# Altium integrated library Kondensator_DIP.IntLib: 1521 symbols (part 3 of 5)
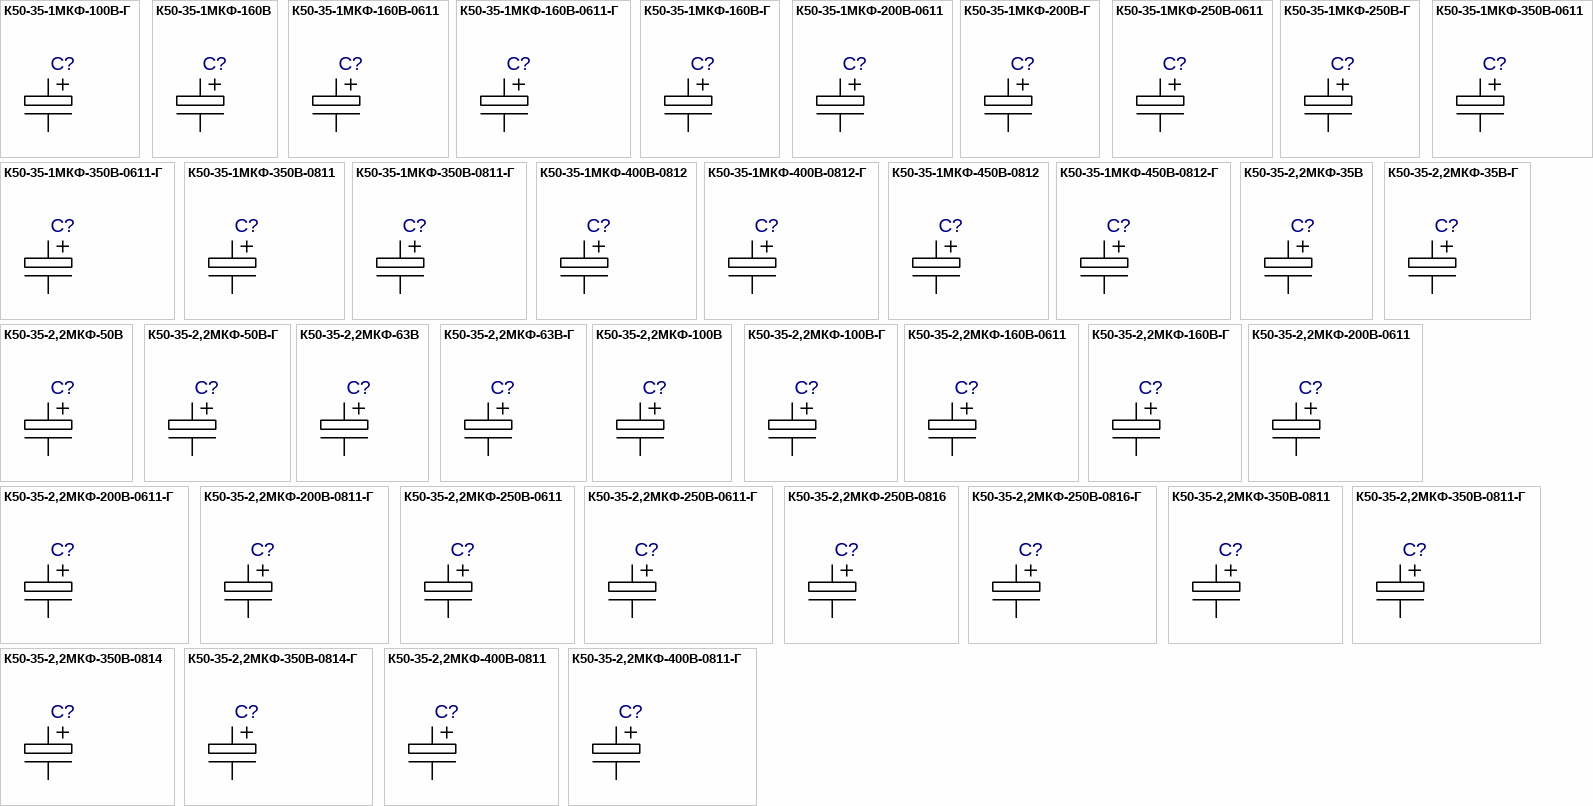
[diagram p40: symbols К50-35-1МКФ-100В-Г to К50-35-2,2МКФ-400В-0811-Г]

## К50-35-2,2МКФ-35В-Г
designator C?  (value not drawn)
Value: *
footprint К50-35-0511-Г_K5035-1R
footprint К50-35-0511-Г_K5035-1R1
footprint К50-35-0511-Г_Primary
pins: 1, 2

## К50-35-2,2МКФ-50В
designator C?  (value not drawn)
Value: *
footprint К50-35-0511_K5035-1R
footprint К50-35-0511_K5035-1R1
footprint К50-35-0511_Primary
pins: 1, 2

## К50-35-2,2МКФ-50В-Г
designator C?  (value not drawn)
Value: *
footprint К50-35-0511-Г_K5035-1R
footprint К50-35-0511-Г_K5035-1R1
footprint К50-35-0511-Г_Primary
pins: 1, 2

## К50-35-2,2МКФ-63В
designator C?  (value not drawn)
Value: *
footprint К50-35-0511_K5035-1R
footprint К50-35-0511_K5035-1R1
footprint К50-35-0511_Primary
pins: 1, 2

## К50-35-2,2МКФ-63В-Г
designator C?  (value not drawn)
Value: *
footprint К50-35-0511-Г_K5035-1R
footprint К50-35-0511-Г_K5035-1R1
footprint К50-35-0511-Г_Primary
pins: 1, 2

## К50-35-2,2МКФ-100В
designator C?  (value not drawn)
Value: *
footprint К50-35-0511_K5035-1R
footprint К50-35-0511_K5035-1R1
footprint К50-35-0511_Primary
pins: 1, 2

## К50-35-2,2МКФ-100В-Г
designator C?  (value not drawn)
Value: *
footprint К50-35-0511-Г_K5035-1R
footprint К50-35-0511-Г_K5035-1R1
footprint К50-35-0511-Г_Primary
pins: 1, 2

## К50-35-2,2МКФ-160В-0611
designator C?  (value not drawn)
Value: *
footprint К50-35-0611_K5035-1R
footprint К50-35-0611_K5035-1R1
footprint К50-35-0611_Primary
pins: 1, 2

## К50-35-2,2МКФ-160В-Г
designator C?  (value not drawn)
Value: *
footprint К50-35-0611-Г_K5035-1R
footprint К50-35-0611-Г_K5035-1R1
footprint К50-35-0611-Г_Primary
pins: 1, 2

## К50-35-2,2МКФ-200В-0611
designator C?  (value not drawn)
Value: *
footprint К50-35-0611_K5035-1R
footprint К50-35-0611_K5035-1R1
footprint К50-35-0611_Primary
pins: 1, 2

## К50-35-2,2МКФ-200В-0611-Г
designator C?  (value not drawn)
Value: *
footprint К50-35-0611-Г_K5035-1R
footprint К50-35-0611-Г_K5035-1R1
footprint К50-35-0611-Г_Primary
pins: 1, 2

## К50-35-2,2МКФ-200В-0811-Г
designator C?  (value not drawn)
Value: *
footprint К50-35-08XX-Г_K5035-2R
footprint К50-35-08XX-Г_K5035-2R1
footprint К50-35-08XX-Г_Primary
pins: 1, 2

## К50-35-2,2МКФ-250В-0611
designator C?  (value not drawn)
Value: *
footprint К50-35-0611_K5035-1R
footprint К50-35-0611_K5035-1R1
footprint К50-35-0611_Primary
pins: 1, 2

## К50-35-2,2МКФ-250В-0611-Г
designator C?  (value not drawn)
Value: *
footprint К50-35-0611-Г_K5035-1R
footprint К50-35-0611-Г_K5035-1R1
footprint К50-35-0611-Г_Primary
pins: 1, 2

## К50-35-2,2МКФ-250В-0816
designator C?  (value not drawn)
Value: *
footprint R50-35-08XX_K5035-2R
footprint R50-35-08XX_K5035-2R1
footprint R50-35-08XX_Primary
pins: 1, 2

## К50-35-2,2МКФ-250В-0816-Г
designator C?  (value not drawn)
Value: *
footprint К50-35-08XX-Г_K5035-2R
footprint К50-35-08XX-Г_K5035-2R1
footprint К50-35-08XX-Г_Primary
pins: 1, 2

## К50-35-2,2МКФ-350В-0811
designator C?  (value not drawn)
Value: *
footprint R50-35-08XX_K5035-2R
footprint R50-35-08XX_K5035-2R1
footprint R50-35-08XX_Primary
pins: 1, 2

## К50-35-2,2МКФ-350В-0811-Г
designator C?  (value not drawn)
Value: *
footprint К50-35-08XX-Г_K5035-2R
footprint К50-35-08XX-Г_K5035-2R1
footprint К50-35-08XX-Г_Primary
pins: 1, 2

## К50-35-2,2МКФ-350В-0814
designator C?  (value not drawn)
Value: *
footprint R50-35-08XX_K5035-2R
footprint R50-35-08XX_K5035-2R1
footprint R50-35-08XX_Primary
pins: 1, 2

## К50-35-2,2МКФ-350В-0814-Г
designator C?  (value not drawn)
Value: *
footprint К50-35-08XX-Г_K5035-2R
footprint К50-35-08XX-Г_K5035-2R1
footprint К50-35-08XX-Г_Primary
pins: 1, 2

## К50-35-2,2МКФ-400В-0811
designator C?  (value not drawn)
Value: *
footprint R50-35-08XX_K5035-2R
footprint R50-35-08XX_K5035-2R1
footprint R50-35-08XX_Primary
pins: 1, 2

## К50-35-2,2МКФ-400В-0811-Г
designator C?  (value not drawn)
Value: *
footprint К50-35-08XX-Г_K5035-2R
footprint К50-35-08XX-Г_K5035-2R1
footprint К50-35-08XX-Г_Primary
pins: 1, 2

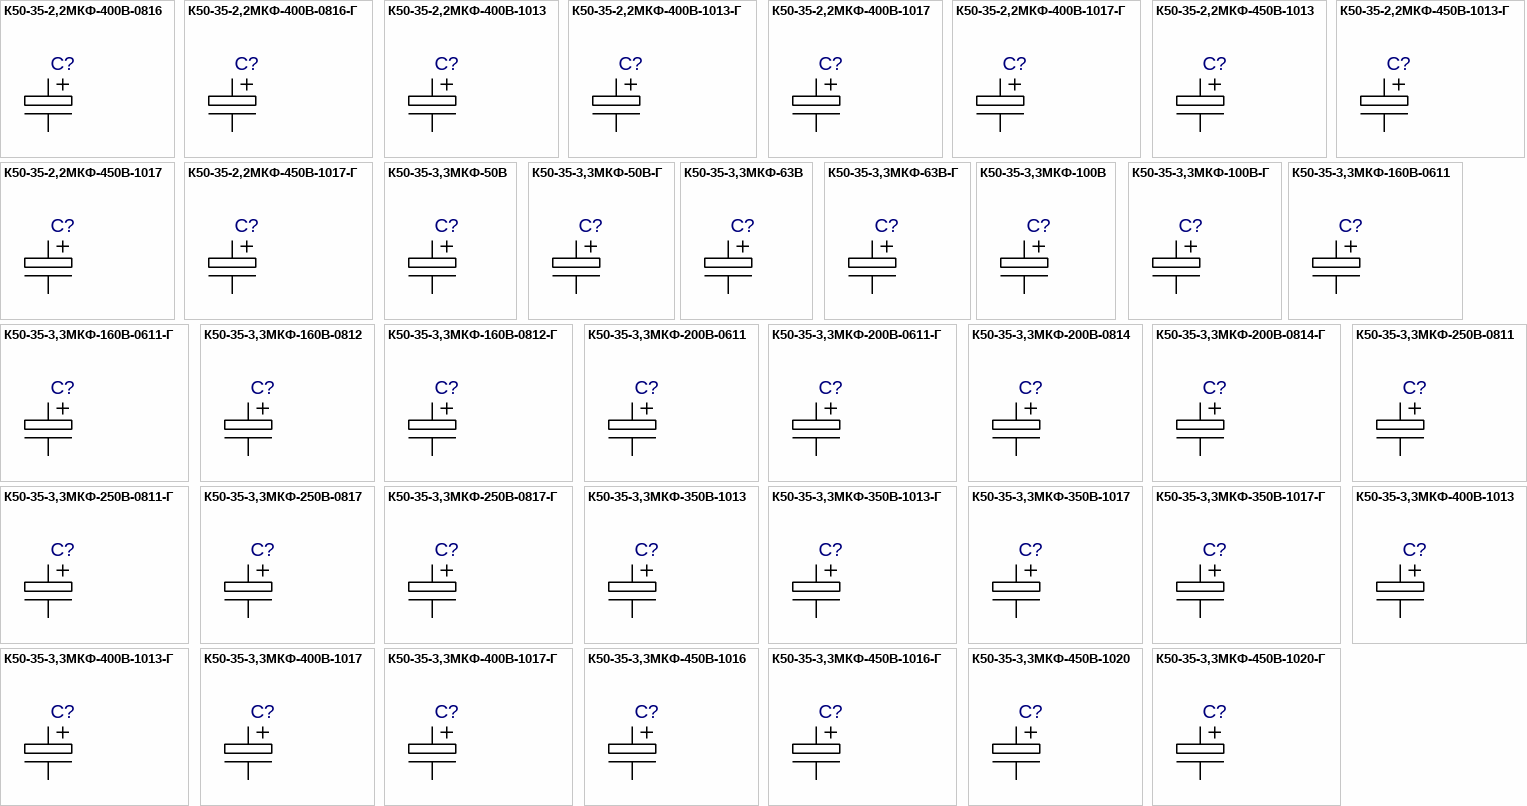
[diagram p23: symbols К50-35-2,2МКФ-400В-0816 to К50-35-3,3МКФ-450В-1020-Г]

## К50-35-2,2МКФ-400В-0816
designator C?  (value not drawn)
Value: *
footprint R50-35-08XX_K5035-2R
footprint R50-35-08XX_K5035-2R1
footprint R50-35-08XX_Primary
pins: 1, 2

## К50-35-2,2МКФ-400В-0816-Г
designator C?  (value not drawn)
Value: *
footprint К50-35-08XX-Г_K5035-2R
footprint К50-35-08XX-Г_K5035-2R1
footprint К50-35-08XX-Г_Primary
pins: 1, 2

## К50-35-2,2МКФ-400В-1013
designator C?  (value not drawn)
Value: *
footprint К50-35-1020_K5035-1R
footprint К50-35-1020_K5035-1R1
footprint К50-35-1020_Primary
pins: 1, 2

## К50-35-2,2МКФ-400В-1013-Г
designator C?  (value not drawn)
Value: *
footprint К50-35-1020-Г_K5035-1R
footprint К50-35-1020-Г_K5035-1R1
footprint К50-35-1020-Г_Primary
pins: 1, 2

## К50-35-2,2МКФ-400В-1017
designator C?  (value not drawn)
Value: *
footprint К50-35-1020_K5035-1R
footprint К50-35-1020_K5035-1R1
footprint К50-35-1020_Primary
pins: 1, 2

## К50-35-2,2МКФ-400В-1017-Г
designator C?  (value not drawn)
Value: *
footprint К50-35-1020-Г_K5035-1R
footprint К50-35-1020-Г_K5035-1R1
footprint К50-35-1020-Г_Primary
pins: 1, 2

## К50-35-2,2МКФ-450В-1013
designator C?  (value not drawn)
Value: *
footprint К50-35-1020_K5035-1R
footprint К50-35-1020_K5035-1R1
footprint К50-35-1020_Primary
pins: 1, 2

## К50-35-2,2МКФ-450В-1013-Г
designator C?  (value not drawn)
Value: *
footprint К50-35-1020-Г_K5035-1R
footprint К50-35-1020-Г_K5035-1R1
footprint К50-35-1020-Г_Primary
pins: 1, 2

## К50-35-2,2МКФ-450В-1017
designator C?  (value not drawn)
Value: *
footprint К50-35-1020_K5035-1R
footprint К50-35-1020_K5035-1R1
footprint К50-35-1020_Primary
pins: 1, 2

## К50-35-2,2МКФ-450В-1017-Г
designator C?  (value not drawn)
Value: *
footprint К50-35-1020-Г_K5035-1R
footprint К50-35-1020-Г_K5035-1R1
footprint К50-35-1020-Г_Primary
pins: 1, 2

## К50-35-3,3МКФ-50В
designator C?  (value not drawn)
Value: *
footprint К50-35-0511_K5035-1R
footprint К50-35-0511_K5035-1R1
footprint К50-35-0511_Primary
pins: 1, 2

## К50-35-3,3МКФ-50В-Г
designator C?  (value not drawn)
Value: *
footprint К50-35-0511-Г_K5035-1R
footprint К50-35-0511-Г_K5035-1R1
footprint К50-35-0511-Г_Primary
pins: 1, 2

## К50-35-3,3МКФ-63В
designator C?  (value not drawn)
Value: *
footprint К50-35-0511_K5035-1R
footprint К50-35-0511_K5035-1R1
footprint К50-35-0511_Primary
pins: 1, 2

## К50-35-3,3МКФ-63В-Г
designator C?  (value not drawn)
Value: *
footprint К50-35-0511-Г_K5035-1R
footprint К50-35-0511-Г_K5035-1R1
footprint К50-35-0511-Г_Primary
pins: 1, 2

## К50-35-3,3МКФ-100В
designator C?  (value not drawn)
Value: *
footprint К50-35-0511_K5035-1R
footprint К50-35-0511_K5035-1R1
footprint К50-35-0511_Primary
pins: 1, 2

## К50-35-3,3МКФ-100В-Г
designator C?  (value not drawn)
Value: *
footprint К50-35-0511-Г_K5035-1R
footprint К50-35-0511-Г_K5035-1R1
footprint К50-35-0511-Г_Primary
pins: 1, 2

## К50-35-3,3МКФ-160В-0611
designator C?  (value not drawn)
Value: *
footprint К50-35-0611_K5035-1R
footprint К50-35-0611_K5035-1R1
footprint К50-35-0611_Primary
pins: 1, 2

## К50-35-3,3МКФ-160В-0611-Г
designator C?  (value not drawn)
Value: *
footprint К50-35-0611-Г_K5035-1R
footprint К50-35-0611-Г_K5035-1R1
footprint К50-35-0611-Г_Primary
pins: 1, 2

## К50-35-3,3МКФ-160В-0812
designator C?  (value not drawn)
Value: *
footprint R50-35-08XX_K5035-2R
footprint R50-35-08XX_K5035-2R1
footprint R50-35-08XX_Primary
pins: 1, 2

## К50-35-3,3МКФ-160В-0812-Г
designator C?  (value not drawn)
Value: *
footprint К50-35-08XX-Г_K5035-2R
footprint К50-35-08XX-Г_K5035-2R1
footprint К50-35-08XX-Г_Primary
pins: 1, 2

## К50-35-3,3МКФ-200В-0611
designator C?  (value not drawn)
Value: *
footprint К50-35-0611_K5035-1R
footprint К50-35-0611_K5035-1R1
footprint К50-35-0611_Primary
pins: 1, 2

## К50-35-3,3МКФ-200В-0611-Г
designator C?  (value not drawn)
Value: *
footprint К50-35-0611-Г_K5035-1R
footprint К50-35-0611-Г_K5035-1R1
footprint К50-35-0611-Г_Primary
pins: 1, 2

## К50-35-3,3МКФ-200В-0814
designator C?  (value not drawn)
Value: *
footprint R50-35-08XX_K5035-2R
footprint R50-35-08XX_K5035-2R1
footprint R50-35-08XX_Primary
pins: 1, 2

## К50-35-3,3МКФ-200В-0814-Г
designator C?  (value not drawn)
Value: *
footprint К50-35-08XX-Г_K5035-2R
footprint К50-35-08XX-Г_K5035-2R1
footprint К50-35-08XX-Г_Primary
pins: 1, 2

## К50-35-3,3МКФ-250В-0811
designator C?  (value not drawn)
Value: *
footprint R50-35-08XX_K5035-2R
footprint R50-35-08XX_K5035-2R1
footprint R50-35-08XX_Primary
pins: 1, 2

## К50-35-3,3МКФ-250В-0811-Г
designator C?  (value not drawn)
Value: *
footprint К50-35-08XX-Г_K5035-2R
footprint К50-35-08XX-Г_K5035-2R1
footprint К50-35-08XX-Г_Primary
pins: 1, 2

## К50-35-3,3МКФ-250В-0817
designator C?  (value not drawn)
Value: *
footprint R50-35-08XX_K5035-2R
footprint R50-35-08XX_K5035-2R1
footprint R50-35-08XX_Primary
pins: 1, 2

## К50-35-3,3МКФ-250В-0817-Г
designator C?  (value not drawn)
Value: *
footprint К50-35-08XX-Г_K5035-2R
footprint К50-35-08XX-Г_K5035-2R1
footprint К50-35-08XX-Г_Primary
pins: 1, 2

## К50-35-3,3МКФ-350В-1013
designator C?  (value not drawn)
Value: *
footprint К50-35-1020_K5035-1R
footprint К50-35-1020_K5035-1R1
footprint К50-35-1020_Primary
pins: 1, 2

## К50-35-3,3МКФ-350В-1013-Г
designator C?  (value not drawn)
Value: *
footprint К50-35-1020-Г_K5035-1R
footprint К50-35-1020-Г_K5035-1R1
footprint К50-35-1020-Г_Primary
pins: 1, 2

## К50-35-3,3МКФ-350В-1017
designator C?  (value not drawn)
Value: *
footprint К50-35-1020_K5035-1R
footprint К50-35-1020_K5035-1R1
footprint К50-35-1020_Primary
pins: 1, 2

## К50-35-3,3МКФ-350В-1017-Г
designator C?  (value not drawn)
Value: *
footprint К50-35-1020-Г_K5035-1R
footprint К50-35-1020-Г_K5035-1R1
footprint К50-35-1020-Г_Primary
pins: 1, 2

## К50-35-3,3МКФ-400В-1013
designator C?  (value not drawn)
Value: *
footprint К50-35-1020_K5035-1R
footprint К50-35-1020_K5035-1R1
footprint К50-35-1020_Primary
pins: 1, 2

## К50-35-3,3МКФ-400В-1013-Г
designator C?  (value not drawn)
Value: *
footprint К50-35-1020-Г_K5035-1R
footprint К50-35-1020-Г_K5035-1R1
footprint К50-35-1020-Г_Primary
pins: 1, 2

## К50-35-3,3МКФ-400В-1017
designator C?  (value not drawn)
Value: *
footprint К50-35-1020_K5035-1R
footprint К50-35-1020_K5035-1R1
footprint К50-35-1020_Primary
pins: 1, 2

## К50-35-3,3МКФ-400В-1017-Г
designator C?  (value not drawn)
Value: *
footprint К50-35-1020-Г_K5035-1R
footprint К50-35-1020-Г_K5035-1R1
footprint К50-35-1020-Г_Primary
pins: 1, 2

## К50-35-3,3МКФ-450В-1016
designator C?  (value not drawn)
Value: *
footprint К50-35-1020_K5035-1R
footprint К50-35-1020_K5035-1R1
footprint К50-35-1020_Primary
pins: 1, 2

## К50-35-3,3МКФ-450В-1016-Г
designator C?  (value not drawn)
Value: *
footprint К50-35-1020-Г_K5035-1R
footprint К50-35-1020-Г_K5035-1R1
footprint К50-35-1020-Г_Primary
pins: 1, 2

## К50-35-3,3МКФ-450В-1020
designator C?  (value not drawn)
Value: *
footprint К50-35-1020_K5035-1R
footprint К50-35-1020_K5035-1R1
footprint К50-35-1020_Primary
pins: 1, 2

## К50-35-3,3МКФ-450В-1020-Г
designator C?  (value not drawn)
Value: *
footprint К50-35-1020-Г_K5035-1R
footprint К50-35-1020-Г_K5035-1R1
footprint К50-35-1020-Г_Primary
pins: 1, 2

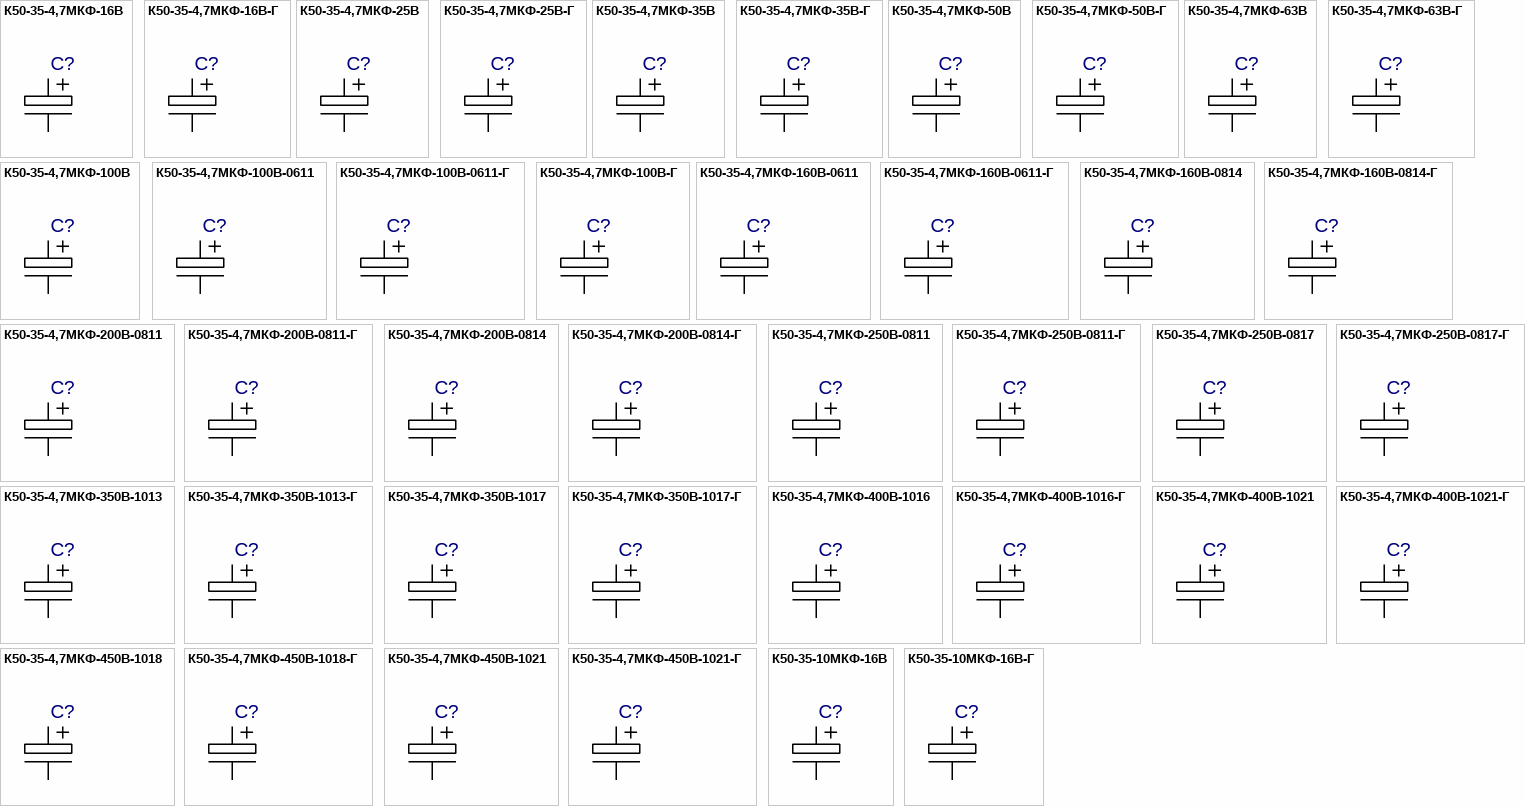
[diagram p24: symbols К50-35-4,7МКФ-16В to К50-35-10МКФ-16В-Г]

## К50-35-4,7МКФ-16В
designator C?  (value not drawn)
Value: *
footprint К50-35-0511_K5035-1R
footprint К50-35-0511_K5035-1R1
footprint К50-35-0511_Primary
pins: 1, 2

## К50-35-4,7МКФ-16В-Г
designator C?  (value not drawn)
Value: *
footprint К50-35-0511-Г_K5035-1R
footprint К50-35-0511-Г_K5035-1R1
footprint К50-35-0511-Г_Primary
pins: 1, 2

## К50-35-4,7МКФ-25В
designator C?  (value not drawn)
Value: *
footprint К50-35-0511_K5035-1R
footprint К50-35-0511_K5035-1R1
footprint К50-35-0511_Primary
pins: 1, 2

## К50-35-4,7МКФ-25В-Г
designator C?  (value not drawn)
Value: *
footprint К50-35-0511-Г_K5035-1R
footprint К50-35-0511-Г_K5035-1R1
footprint К50-35-0511-Г_Primary
pins: 1, 2

## К50-35-4,7МКФ-35В
designator C?  (value not drawn)
Value: *
footprint К50-35-0511_K5035-1R
footprint К50-35-0511_K5035-1R1
footprint К50-35-0511_Primary
pins: 1, 2

## К50-35-4,7МКФ-35В-Г
designator C?  (value not drawn)
Value: *
footprint К50-35-0511-Г_K5035-1R
footprint К50-35-0511-Г_K5035-1R1
footprint К50-35-0511-Г_Primary
pins: 1, 2

## К50-35-4,7МКФ-50В
designator C?  (value not drawn)
Value: *
footprint К50-35-0511_K5035-1R
footprint К50-35-0511_K5035-1R1
footprint К50-35-0511_Primary
pins: 1, 2

## К50-35-4,7МКФ-50В-Г
designator C?  (value not drawn)
Value: *
footprint К50-35-0511-Г_K5035-1R
footprint К50-35-0511-Г_K5035-1R1
footprint К50-35-0511-Г_Primary
pins: 1, 2

## К50-35-4,7МКФ-63В
designator C?  (value not drawn)
Value: *
footprint К50-35-0511_K5035-1R
footprint К50-35-0511_K5035-1R1
footprint К50-35-0511_Primary
pins: 1, 2

## К50-35-4,7МКФ-63В-Г
designator C?  (value not drawn)
Value: *
footprint К50-35-0511-Г_K5035-1R
footprint К50-35-0511-Г_K5035-1R1
footprint К50-35-0511-Г_Primary
pins: 1, 2

## К50-35-4,7МКФ-100В
designator C?  (value not drawn)
Value: *
footprint К50-35-0511_K5035-1R
footprint К50-35-0511_K5035-1R1
footprint К50-35-0511_Primary
pins: 1, 2

## К50-35-4,7МКФ-100В-0611
designator C?  (value not drawn)
Value: *
footprint К50-35-0611_K5035-1R
footprint К50-35-0611_K5035-1R1
footprint К50-35-0611_Primary
pins: 1, 2

## К50-35-4,7МКФ-100В-0611-Г
designator C?  (value not drawn)
Value: *
footprint К50-35-0611-Г_K5035-1R
footprint К50-35-0611-Г_K5035-1R1
footprint К50-35-0611-Г_Primary
pins: 1, 2

## К50-35-4,7МКФ-100В-Г
designator C?  (value not drawn)
Value: *
footprint К50-35-0511-Г_K5035-1R
footprint К50-35-0511-Г_K5035-1R1
footprint К50-35-0511-Г_Primary
pins: 1, 2

## К50-35-4,7МКФ-160В-0611
designator C?  (value not drawn)
Value: *
footprint К50-35-0611_K5035-1R
footprint К50-35-0611_K5035-1R1
footprint К50-35-0611_Primary
pins: 1, 2

## К50-35-4,7МКФ-160В-0611-Г
designator C?  (value not drawn)
Value: *
footprint К50-35-0611-Г_K5035-1R
footprint К50-35-0611-Г_K5035-1R1
footprint К50-35-0611-Г_Primary
pins: 1, 2

## К50-35-4,7МКФ-160В-0814
designator C?  (value not drawn)
Value: *
footprint R50-35-08XX_K5035-2R
footprint R50-35-08XX_K5035-2R1
footprint R50-35-08XX_Primary
pins: 1, 2

## К50-35-4,7МКФ-160В-0814-Г
designator C?  (value not drawn)
Value: *
footprint К50-35-08XX-Г_K5035-2R
footprint К50-35-08XX-Г_K5035-2R1
footprint К50-35-08XX-Г_Primary
pins: 1, 2

## К50-35-4,7МКФ-200В-0811
designator C?  (value not drawn)
Value: *
footprint R50-35-08XX_K5035-2R
footprint R50-35-08XX_K5035-2R1
footprint R50-35-08XX_Primary
pins: 1, 2

## К50-35-4,7МКФ-200В-0811-Г
designator C?  (value not drawn)
Value: *
footprint К50-35-08XX-Г_K5035-2R
footprint К50-35-08XX-Г_K5035-2R1
footprint К50-35-08XX-Г_Primary
pins: 1, 2

## К50-35-4,7МКФ-200В-0814
designator C?  (value not drawn)
Value: *
footprint R50-35-08XX_K5035-2R
footprint R50-35-08XX_K5035-2R1
footprint R50-35-08XX_Primary
pins: 1, 2

## К50-35-4,7МКФ-200В-0814-Г
designator C?  (value not drawn)
Value: *
footprint К50-35-08XX-Г_K5035-2R
footprint К50-35-08XX-Г_K5035-2R1
footprint К50-35-08XX-Г_Primary
pins: 1, 2

## К50-35-4,7МКФ-250В-0811
designator C?  (value not drawn)
Value: *
footprint R50-35-08XX_K5035-2R
footprint R50-35-08XX_K5035-2R1
footprint R50-35-08XX_Primary
pins: 1, 2

## К50-35-4,7МКФ-250В-0811-Г
designator C?  (value not drawn)
Value: *
footprint К50-35-08XX-Г_K5035-2R
footprint К50-35-08XX-Г_K5035-2R1
footprint К50-35-08XX-Г_Primary
pins: 1, 2

## К50-35-4,7МКФ-250В-0817
designator C?  (value not drawn)
Value: *
footprint R50-35-08XX_K5035-2R
footprint R50-35-08XX_K5035-2R1
footprint R50-35-08XX_Primary
pins: 1, 2

## К50-35-4,7МКФ-250В-0817-Г
designator C?  (value not drawn)
Value: *
footprint К50-35-08XX-Г_K5035-2R
footprint К50-35-08XX-Г_K5035-2R1
footprint К50-35-08XX-Г_Primary
pins: 1, 2

## К50-35-4,7МКФ-350В-1013
designator C?  (value not drawn)
Value: *
footprint К50-35-1020_K5035-1R
footprint К50-35-1020_K5035-1R1
footprint К50-35-1020_Primary
pins: 1, 2

## К50-35-4,7МКФ-350В-1013-Г
designator C?  (value not drawn)
Value: *
footprint К50-35-1020-Г_K5035-1R
footprint К50-35-1020-Г_K5035-1R1
footprint К50-35-1020-Г_Primary
pins: 1, 2

## К50-35-4,7МКФ-350В-1017
designator C?  (value not drawn)
Value: *
footprint К50-35-1020_K5035-1R
footprint К50-35-1020_K5035-1R1
footprint К50-35-1020_Primary
pins: 1, 2

## К50-35-4,7МКФ-350В-1017-Г
designator C?  (value not drawn)
Value: *
footprint К50-35-1020-Г_K5035-1R
footprint К50-35-1020-Г_K5035-1R1
footprint К50-35-1020-Г_Primary
pins: 1, 2

## К50-35-4,7МКФ-400В-1016
designator C?  (value not drawn)
Value: *
footprint К50-35-1020_K5035-1R
footprint К50-35-1020_K5035-1R1
footprint К50-35-1020_Primary
pins: 1, 2

## К50-35-4,7МКФ-400В-1016-Г
designator C?  (value not drawn)
Value: *
footprint К50-35-1020-Г_K5035-1R
footprint К50-35-1020-Г_K5035-1R1
footprint К50-35-1020-Г_Primary
pins: 1, 2

## К50-35-4,7МКФ-400В-1021
designator C?  (value not drawn)
Value: *
footprint К50-35-1020_K5035-1R
footprint К50-35-1020_K5035-1R1
footprint К50-35-1020_Primary
pins: 1, 2

## К50-35-4,7МКФ-400В-1021-Г
designator C?  (value not drawn)
Value: *
footprint К50-35-1020-Г_K5035-1R
footprint К50-35-1020-Г_K5035-1R1
footprint К50-35-1020-Г_Primary
pins: 1, 2

## К50-35-4,7МКФ-450В-1018
designator C?  (value not drawn)
Value: *
footprint К50-35-1020_K5035-1R
footprint К50-35-1020_K5035-1R1
footprint К50-35-1020_Primary
pins: 1, 2

## К50-35-4,7МКФ-450В-1018-Г
designator C?  (value not drawn)
Value: *
footprint К50-35-1020-Г_K5035-1R
footprint К50-35-1020-Г_K5035-1R1
footprint К50-35-1020-Г_Primary
pins: 1, 2

## К50-35-4,7МКФ-450В-1021
designator C?  (value not drawn)
Value: *
footprint К50-35-1020_K5035-1R
footprint К50-35-1020_K5035-1R1
footprint К50-35-1020_Primary
pins: 1, 2

## К50-35-4,7МКФ-450В-1021-Г
designator C?  (value not drawn)
Value: *
footprint К50-35-1020-Г_K5035-1R
footprint К50-35-1020-Г_K5035-1R1
footprint К50-35-1020-Г_Primary
pins: 1, 2

## К50-35-10МКФ-16В
designator C?  (value not drawn)
Value: *
footprint К50-35-0511_K5035-1R
footprint К50-35-0511_K5035-1R1
footprint К50-35-0511_Primary
pins: 1, 2

## К50-35-10МКФ-16В-Г
designator C?  (value not drawn)
Value: *
footprint К50-35-0511-Г_K5035-1R
footprint К50-35-0511-Г_K5035-1R1
footprint К50-35-0511-Г_Primary
pins: 1, 2

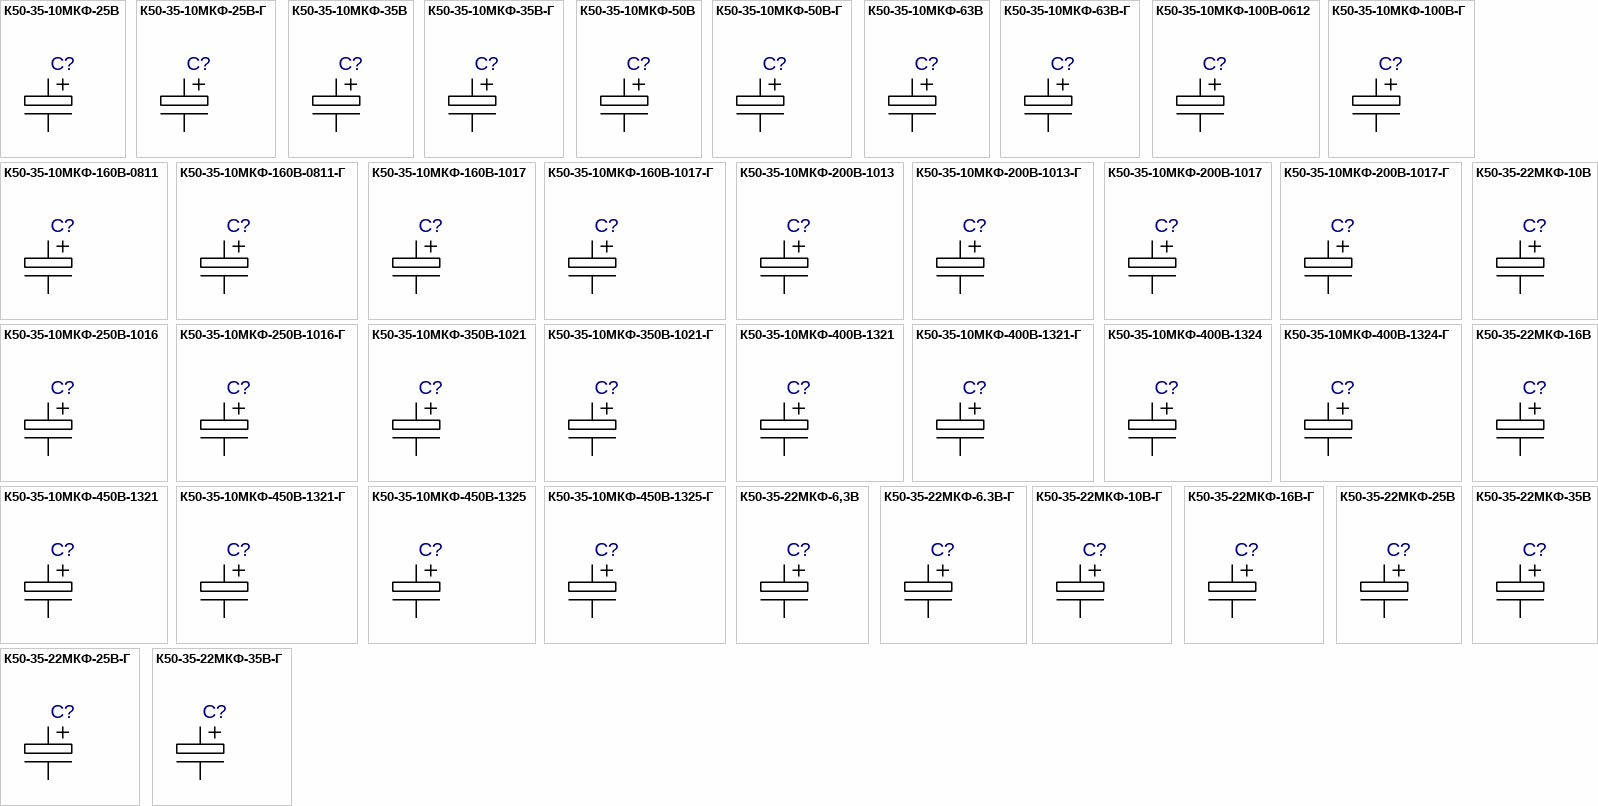
[diagram p25: symbols К50-35-10МКФ-25В to К50-35-22МКФ-35В-Г]

## К50-35-10МКФ-25В
designator C?  (value not drawn)
Value: *
footprint К50-35-0511_K5035-1R
footprint К50-35-0511_K5035-1R1
footprint К50-35-0511_Primary
pins: 1, 2

## К50-35-10МКФ-25В-Г
designator C?  (value not drawn)
Value: *
footprint К50-35-0511-Г_K5035-1R
footprint К50-35-0511-Г_K5035-1R1
footprint К50-35-0511-Г_Primary
pins: 1, 2

## К50-35-10МКФ-35В
designator C?  (value not drawn)
Value: *
footprint К50-35-0511_K5035-1R
footprint К50-35-0511_K5035-1R1
footprint К50-35-0511_Primary
pins: 1, 2

## К50-35-10МКФ-35В-Г
designator C?  (value not drawn)
Value: *
footprint К50-35-0511-Г_K5035-1R
footprint К50-35-0511-Г_K5035-1R1
footprint К50-35-0511-Г_Primary
pins: 1, 2

## К50-35-10МКФ-50В
designator C?  (value not drawn)
Value: *
footprint К50-35-0511_K5035-1R
footprint К50-35-0511_K5035-1R1
footprint К50-35-0511_Primary
pins: 1, 2

## К50-35-10МКФ-50В-Г
designator C?  (value not drawn)
Value: *
footprint К50-35-0511-Г_K5035-1R
footprint К50-35-0511-Г_K5035-1R1
footprint К50-35-0511-Г_Primary
pins: 1, 2

## К50-35-10МКФ-63В
designator C?  (value not drawn)
Value: *
footprint К50-35-0511_K5035-1R
footprint К50-35-0511_K5035-1R1
footprint К50-35-0511_Primary
pins: 1, 2

## К50-35-10МКФ-63В-Г
designator C?  (value not drawn)
Value: *
footprint К50-35-0511-Г_K5035-1R
footprint К50-35-0511-Г_K5035-1R1
footprint К50-35-0511-Г_Primary
pins: 1, 2

## К50-35-10МКФ-100В-0612
designator C?  (value not drawn)
Value: *
footprint К50-35-0611_K5035-1R
footprint К50-35-0611_K5035-1R1
footprint К50-35-0611_Primary
pins: 1, 2

## К50-35-10МКФ-100В-Г
designator C?  (value not drawn)
Value: *
footprint К50-35-0611-Г_K5035-1R
footprint К50-35-0611-Г_K5035-1R1
footprint К50-35-0611-Г_Primary
pins: 1, 2

## К50-35-10МКФ-160В-0811
designator C?  (value not drawn)
Value: *
footprint R50-35-08XX_K5035-2R
footprint R50-35-08XX_K5035-2R1
footprint R50-35-08XX_Primary
pins: 1, 2

## К50-35-10МКФ-160В-0811-Г
designator C?  (value not drawn)
Value: *
footprint К50-35-08XX-Г_K5035-2R
footprint К50-35-08XX-Г_K5035-2R1
footprint К50-35-08XX-Г_Primary
pins: 1, 2

## К50-35-10МКФ-160В-1017
designator C?  (value not drawn)
Value: *
footprint К50-35-1020_K5035-1R
footprint К50-35-1020_K5035-1R1
footprint К50-35-1020_Primary
pins: 1, 2

## К50-35-10МКФ-160В-1017-Г
designator C?  (value not drawn)
Value: *
footprint К50-35-1020-Г_K5035-1R
footprint К50-35-1020-Г_K5035-1R1
footprint К50-35-1020-Г_Primary
pins: 1, 2

## К50-35-10МКФ-200В-1013
designator C?  (value not drawn)
Value: *
footprint К50-35-1020_K5035-1R
footprint К50-35-1020_K5035-1R1
footprint К50-35-1020_Primary
pins: 1, 2

## К50-35-10МКФ-200В-1013-Г
designator C?  (value not drawn)
Value: *
footprint К50-35-1020-Г_K5035-1R
footprint К50-35-1020-Г_K5035-1R1
footprint К50-35-1020-Г_Primary
pins: 1, 2

## К50-35-10МКФ-200В-1017
designator C?  (value not drawn)
Value: *
footprint К50-35-1020_K5035-1R
footprint К50-35-1020_K5035-1R1
footprint К50-35-1020_Primary
pins: 1, 2

## К50-35-10МКФ-200В-1017-Г
designator C?  (value not drawn)
Value: *
footprint К50-35-1020-Г_K5035-1R
footprint К50-35-1020-Г_K5035-1R1
footprint К50-35-1020-Г_Primary
pins: 1, 2

## К50-35-10МКФ-250В-1016
designator C?  (value not drawn)
Value: *
footprint К50-35-1020_K5035-1R
footprint К50-35-1020_K5035-1R1
footprint К50-35-1020_Primary
pins: 1, 2

## К50-35-10МКФ-250В-1016-Г
designator C?  (value not drawn)
Value: *
footprint К50-35-1020-Г_K5035-1R
footprint К50-35-1020-Г_K5035-1R1
footprint К50-35-1020-Г_Primary
pins: 1, 2

## К50-35-10МКФ-350В-1021
designator C?  (value not drawn)
Value: *
footprint К50-35-1020_K5035-1R
footprint К50-35-1020_K5035-1R1
footprint К50-35-1020_Primary
pins: 1, 2

## К50-35-10МКФ-350В-1021-Г
designator C?  (value not drawn)
Value: *
footprint К50-35-1020-Г_K5035-1R
footprint К50-35-1020-Г_K5035-1R1
footprint К50-35-1020-Г_Primary
pins: 1, 2

## К50-35-10МКФ-400В-1321
designator C?  (value not drawn)
Value: *
footprint К50-35-1320_K5035-1R
footprint К50-35-1320_K5035-1R1
footprint К50-35-1320_Primary
pins: 1, 2

## К50-35-10МКФ-400В-1321-Г
designator C?  (value not drawn)
Value: *
footprint К50-35-13XX-Г_K5035-1R
footprint К50-35-13XX-Г_K5035-1R1
footprint К50-35-13XX-Г_Primary
pins: 1, 2

## К50-35-10МКФ-400В-1324
designator C?  (value not drawn)
Value: *
footprint К50-35-1320_K5035-1R
footprint К50-35-1320_K5035-1R1
footprint К50-35-1320_Primary
pins: 1, 2

## К50-35-10МКФ-400В-1324-Г
designator C?  (value not drawn)
Value: *
footprint К50-35-13XX-Г_K5035-1R
footprint К50-35-13XX-Г_K5035-1R1
footprint К50-35-13XX-Г_Primary
pins: 1, 2

## К50-35-10МКФ-450В-1321
designator C?  (value not drawn)
Value: *
footprint К50-35-1320_K5035-1R
footprint К50-35-1320_K5035-1R1
footprint К50-35-1320_Primary
pins: 1, 2

## К50-35-10МКФ-450В-1321-Г
designator C?  (value not drawn)
Value: *
footprint К50-35-13XX-Г_K5035-1R
footprint К50-35-13XX-Г_K5035-1R1
footprint К50-35-13XX-Г_Primary
pins: 1, 2

## К50-35-10МКФ-450В-1325
designator C?  (value not drawn)
Value: *
footprint К50-35-1320_K5035-1R
footprint К50-35-1320_K5035-1R1
footprint К50-35-1320_Primary
pins: 1, 2

## К50-35-10МКФ-450В-1325-Г
designator C?  (value not drawn)
Value: *
footprint К50-35-13XX-Г_K5035-1R
footprint К50-35-13XX-Г_K5035-1R1
footprint К50-35-13XX-Г_Primary
pins: 1, 2

## К50-35-22МКФ-6,3В
designator C?  (value not drawn)
Value: *
footprint К50-35-0511_K5035-1R
footprint К50-35-0511_K5035-1R1
footprint К50-35-0511_Primary
pins: 1, 2

## К50-35-22МКФ-6.3В-Г
designator C?  (value not drawn)
Value: *
footprint К50-35-0511-Г_K5035-1R
footprint К50-35-0511-Г_K5035-1R1
footprint К50-35-0511-Г_Primary
pins: 1, 2

## К50-35-22МКФ-10В
designator C?  (value not drawn)
Value: *
footprint К50-35-0511_K5035-1R
footprint К50-35-0511_K5035-1R1
footprint К50-35-0511_Primary
pins: 1, 2

## К50-35-22МКФ-10В-Г
designator C?  (value not drawn)
Value: *
footprint К50-35-0511-Г_K5035-1R
footprint К50-35-0511-Г_K5035-1R1
footprint К50-35-0511-Г_Primary
pins: 1, 2

## К50-35-22МКФ-16В
designator C?  (value not drawn)
Value: *
footprint К50-35-0511_K5035-1R
footprint К50-35-0511_K5035-1R1
footprint К50-35-0511_Primary
pins: 1, 2

## К50-35-22МКФ-16В-Г
designator C?  (value not drawn)
Value: *
footprint К50-35-0511-Г_K5035-1R
footprint К50-35-0511-Г_K5035-1R1
footprint К50-35-0511-Г_Primary
pins: 1, 2

## К50-35-22МКФ-25В
designator C?  (value not drawn)
Value: *
footprint К50-35-0511_K5035-1R
footprint К50-35-0511_K5035-1R1
footprint К50-35-0511_Primary
pins: 1, 2

## К50-35-22МКФ-25В-Г
designator C?  (value not drawn)
Value: *
footprint К50-35-0511-Г_K5035-1R
footprint К50-35-0511-Г_K5035-1R1
footprint К50-35-0511-Г_Primary
pins: 1, 2

## К50-35-22МКФ-35В
designator C?  (value not drawn)
Value: *
footprint К50-35-0511_K5035-1R
footprint К50-35-0511_K5035-1R1
footprint К50-35-0511_Primary
pins: 1, 2

## К50-35-22МКФ-35В-Г
designator C?  (value not drawn)
Value: *
footprint К50-35-0511-Г_K5035-1R
footprint К50-35-0511-Г_K5035-1R1
footprint К50-35-0511-Г_Primary
pins: 1, 2

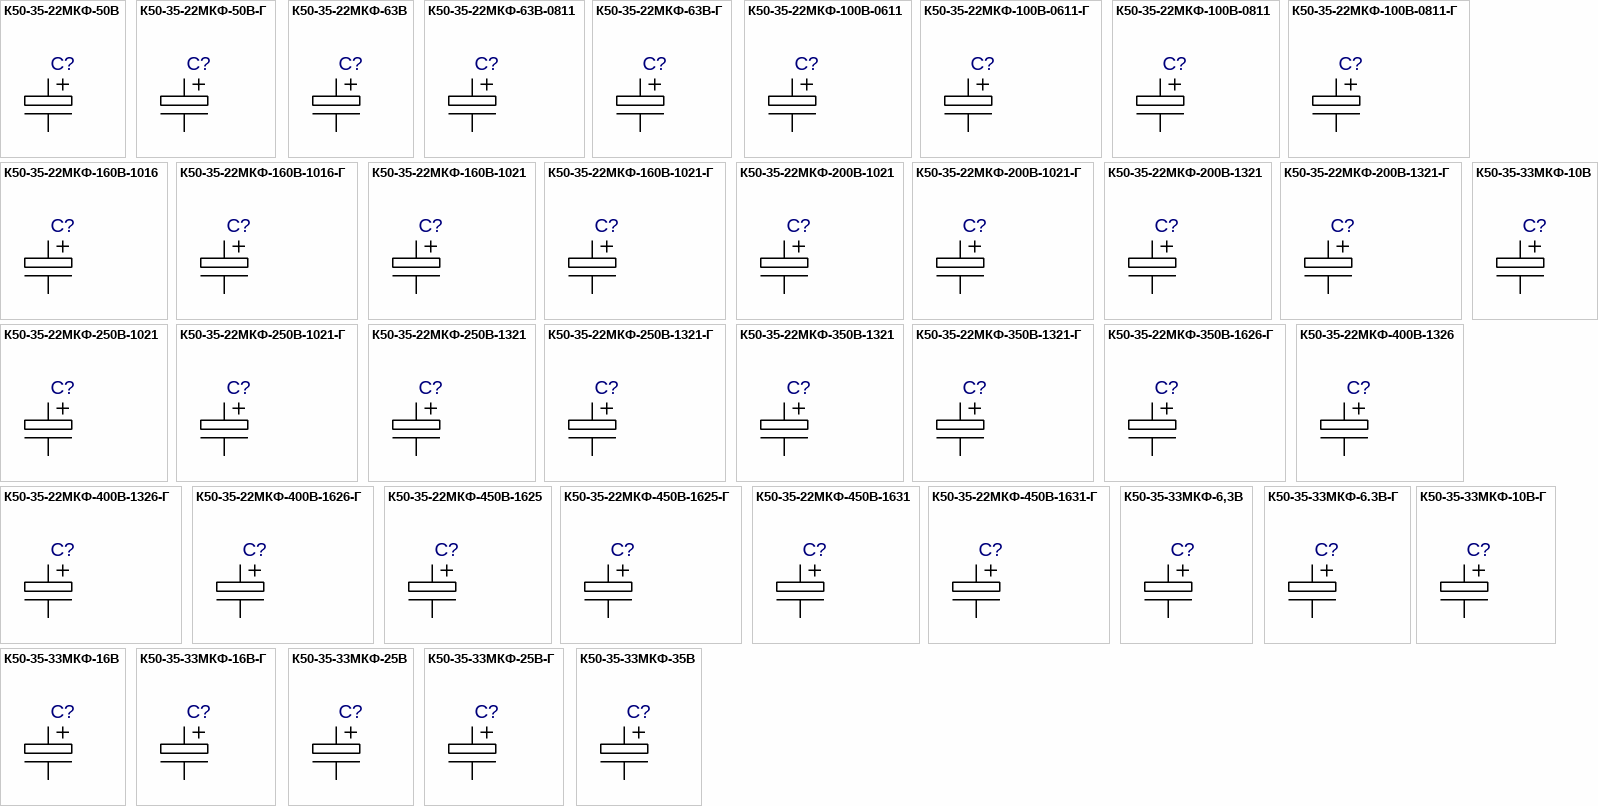
[diagram p26: symbols К50-35-22МКФ-50В to К50-35-33МКФ-35В]

## К50-35-22МКФ-50В
designator C?  (value not drawn)
Value: *
footprint К50-35-0511_K5035-1R
footprint К50-35-0511_K5035-1R1
footprint К50-35-0511_Primary
pins: 1, 2

## К50-35-22МКФ-50В-Г
designator C?  (value not drawn)
Value: *
footprint К50-35-0511-Г_K5035-1R
footprint К50-35-0511-Г_K5035-1R1
footprint К50-35-0511-Г_Primary
pins: 1, 2

## К50-35-22МКФ-63В
designator C?  (value not drawn)
Value: *
footprint К50-35-0511_K5035-1R
footprint К50-35-0511_K5035-1R1
footprint К50-35-0511_Primary
pins: 1, 2

## К50-35-22МКФ-63В-0811
designator C?  (value not drawn)
Value: *
footprint R50-35-08XX_K5035-2R
footprint R50-35-08XX_K5035-2R1
footprint R50-35-08XX_Primary
pins: 1, 2

## К50-35-22МКФ-63В-Г
designator C?  (value not drawn)
Value: *
footprint К50-35-0511-Г_K5035-1R
footprint К50-35-0511-Г_K5035-1R1
footprint К50-35-0511-Г_Primary
pins: 1, 2

## К50-35-22МКФ-100В-0611
designator C?  (value not drawn)
Value: *
footprint К50-35-0611_K5035-1R
footprint К50-35-0611_K5035-1R1
footprint К50-35-0611_Primary
pins: 1, 2

## К50-35-22МКФ-100В-0611-Г
designator C?  (value not drawn)
Value: *
footprint К50-35-0611-Г_K5035-1R
footprint К50-35-0611-Г_K5035-1R1
footprint К50-35-0611-Г_Primary
pins: 1, 2

## К50-35-22МКФ-100В-0811
designator C?  (value not drawn)
Value: *
footprint R50-35-08XX_K5035-2R
footprint R50-35-08XX_K5035-2R1
footprint R50-35-08XX_Primary
pins: 1, 2

## К50-35-22МКФ-100В-0811-Г
designator C?  (value not drawn)
Value: *
footprint К50-35-08XX-Г_K5035-2R
footprint К50-35-08XX-Г_K5035-2R1
footprint К50-35-08XX-Г_Primary
pins: 1, 2

## К50-35-22МКФ-160В-1016
designator C?  (value not drawn)
Value: *
footprint К50-35-1020_K5035-1R
footprint К50-35-1020_K5035-1R1
footprint К50-35-1020_Primary
pins: 1, 2

## К50-35-22МКФ-160В-1016-Г
designator C?  (value not drawn)
Value: *
footprint К50-35-1020-Г_K5035-1R
footprint К50-35-1020-Г_K5035-1R1
footprint К50-35-1020-Г_Primary
pins: 1, 2

## К50-35-22МКФ-160В-1021
designator C?  (value not drawn)
Value: *
footprint К50-35-1020_K5035-1R
footprint К50-35-1020_K5035-1R1
footprint К50-35-1020_Primary
pins: 1, 2

## К50-35-22МКФ-160В-1021-Г
designator C?  (value not drawn)
Value: *
footprint К50-35-1020-Г_K5035-1R
footprint К50-35-1020-Г_K5035-1R1
footprint К50-35-1020-Г_Primary
pins: 1, 2

## К50-35-22МКФ-200В-1021
designator C?  (value not drawn)
Value: *
footprint К50-35-1020_K5035-1R
footprint К50-35-1020_K5035-1R1
footprint К50-35-1020_Primary
pins: 1, 2

## К50-35-22МКФ-200В-1021-Г
designator C?  (value not drawn)
Value: *
footprint К50-35-1020-Г_K5035-1R
footprint К50-35-1020-Г_K5035-1R1
footprint К50-35-1020-Г_Primary
pins: 1, 2

## К50-35-22МКФ-200В-1321
designator C?  (value not drawn)
Value: *
footprint К50-35-1320_K5035-1R
footprint К50-35-1320_K5035-1R1
footprint К50-35-1320_Primary
pins: 1, 2

## К50-35-22МКФ-200В-1321-Г
designator C?  (value not drawn)
Value: *
footprint К50-35-13XX-Г_K5035-1R
footprint К50-35-13XX-Г_K5035-1R1
footprint К50-35-13XX-Г_Primary
pins: 1, 2

## К50-35-22МКФ-250В-1021
designator C?  (value not drawn)
Value: *
footprint К50-35-1020_K5035-1R
footprint К50-35-1020_K5035-1R1
footprint К50-35-1020_Primary
pins: 1, 2

## К50-35-22МКФ-250В-1021-Г
designator C?  (value not drawn)
Value: *
footprint К50-35-1020-Г_K5035-1R
footprint К50-35-1020-Г_K5035-1R1
footprint К50-35-1020-Г_Primary
pins: 1, 2

## К50-35-22МКФ-250В-1321
designator C?  (value not drawn)
Value: *
footprint К50-35-1320_K5035-1R
footprint К50-35-1320_K5035-1R1
footprint К50-35-1320_Primary
pins: 1, 2

## К50-35-22МКФ-250В-1321-Г
designator C?  (value not drawn)
Value: *
footprint К50-35-13XX-Г_K5035-1R
footprint К50-35-13XX-Г_K5035-1R1
footprint К50-35-13XX-Г_Primary
pins: 1, 2

## К50-35-22МКФ-350В-1321
designator C?  (value not drawn)
Value: *
footprint К50-35-1320_K5035-1R
footprint К50-35-1320_K5035-1R1
footprint К50-35-1320_Primary
pins: 1, 2

## К50-35-22МКФ-350В-1321-Г
designator C?  (value not drawn)
Value: *
footprint К50-35-13XX-Г_K5035-1R
footprint К50-35-13XX-Г_K5035-1R1
footprint К50-35-13XX-Г_Primary
pins: 1, 2

## К50-35-22МКФ-350В-1626-Г
designator C?  (value not drawn)
Value: *
footprint К50-35-16XX-Г_K5035-1R
footprint К50-35-16XX-Г_K5035-1R1
footprint К50-35-16XX-Г_Primary
pins: 1, 2

## К50-35-22МКФ-400В-1326
designator C?  (value not drawn)
Value: *
footprint К50-35-1320_K5035-1R
footprint К50-35-1320_K5035-1R1
footprint К50-35-1320_Primary
pins: 1, 2

## К50-35-22МКФ-400В-1326-Г
designator C?  (value not drawn)
Value: *
footprint К50-35-13XX-Г_K5035-1R
footprint К50-35-13XX-Г_K5035-1R1
footprint К50-35-13XX-Г_Primary
pins: 1, 2

## К50-35-22МКФ-400В-1626-Г
designator C?  (value not drawn)
Value: *
footprint К50-35-16XX-Г_K5035-1R
footprint К50-35-16XX-Г_K5035-1R1
footprint К50-35-16XX-Г_Primary
pins: 1, 2

## К50-35-22МКФ-450В-1625
designator C?  (value not drawn)
Value: *
footprint К50-35-1625_K5035-1R
footprint К50-35-1625_K5035-1R1
footprint К50-35-1625_Primary
pins: 1, 2

## К50-35-22МКФ-450В-1625-Г
designator C?  (value not drawn)
Value: *
footprint К50-35-16XX-Г_K5035-1R
footprint К50-35-16XX-Г_K5035-1R1
footprint К50-35-16XX-Г_Primary
pins: 1, 2

## К50-35-22МКФ-450В-1631
designator C?  (value not drawn)
Value: *
footprint К50-35-1625_K5035-1R
footprint К50-35-1625_K5035-1R1
footprint К50-35-1625_Primary
pins: 1, 2

## К50-35-22МКФ-450В-1631-Г
designator C?  (value not drawn)
Value: *
footprint К50-35-16XX-Г_K5035-1R
footprint К50-35-16XX-Г_K5035-1R1
footprint К50-35-16XX-Г_Primary
pins: 1, 2

## К50-35-33МКФ-6,3В
designator C?  (value not drawn)
Value: *
footprint К50-35-0511_K5035-1R
footprint К50-35-0511_K5035-1R1
footprint К50-35-0511_Primary
pins: 1, 2

## К50-35-33МКФ-6.3В-Г
designator C?  (value not drawn)
Value: *
footprint К50-35-0511-Г_K5035-1R
footprint К50-35-0511-Г_K5035-1R1
footprint К50-35-0511-Г_Primary
pins: 1, 2

## К50-35-33МКФ-10В
designator C?  (value not drawn)
Value: *
footprint К50-35-0511_K5035-1R
footprint К50-35-0511_K5035-1R1
footprint К50-35-0511_Primary
pins: 1, 2

## К50-35-33МКФ-10В-Г
designator C?  (value not drawn)
Value: *
footprint К50-35-0511-Г_K5035-1R
footprint К50-35-0511-Г_K5035-1R1
footprint К50-35-0511-Г_Primary
pins: 1, 2

## К50-35-33МКФ-16В
designator C?  (value not drawn)
Value: *
footprint К50-35-0511_K5035-1R
footprint К50-35-0511_K5035-1R1
footprint К50-35-0511_Primary
pins: 1, 2

## К50-35-33МКФ-16В-Г
designator C?  (value not drawn)
Value: *
footprint К50-35-0511-Г_K5035-1R
footprint К50-35-0511-Г_K5035-1R1
footprint К50-35-0511-Г_Primary
pins: 1, 2

## К50-35-33МКФ-25В
designator C?  (value not drawn)
Value: *
footprint К50-35-0511_K5035-1R
footprint К50-35-0511_K5035-1R1
footprint К50-35-0511_Primary
pins: 1, 2

## К50-35-33МКФ-25В-Г
designator C?  (value not drawn)
Value: *
footprint К50-35-0511-Г_K5035-1R
footprint К50-35-0511-Г_K5035-1R1
footprint К50-35-0511-Г_Primary
pins: 1, 2

## К50-35-33МКФ-35В
designator C?  (value not drawn)
Value: *
footprint К50-35-0511_K5035-1R
footprint К50-35-0511_K5035-1R1
footprint К50-35-0511_Primary
pins: 1, 2

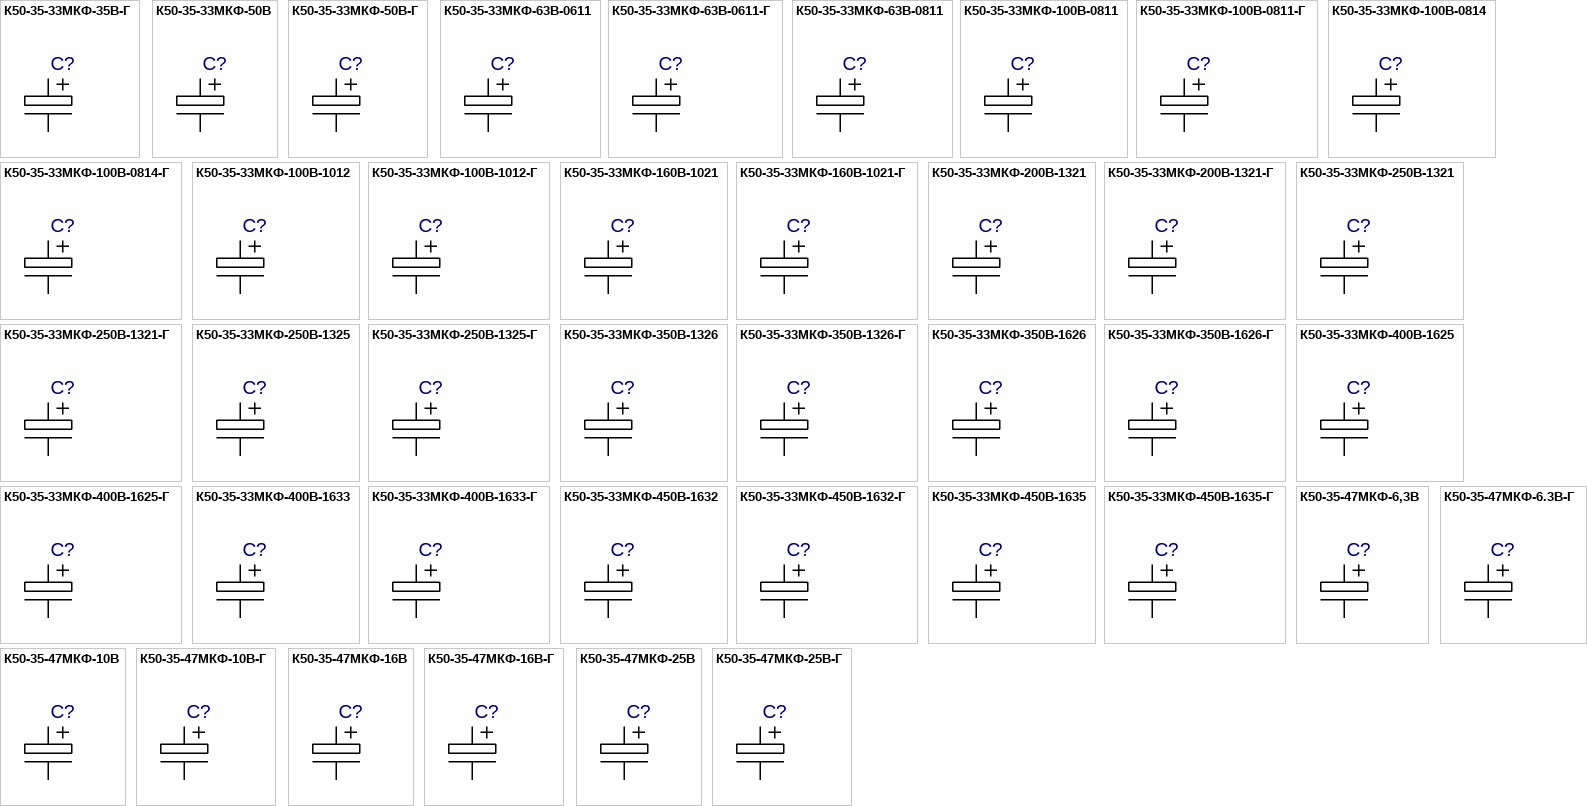
[diagram p27: symbols К50-35-33МКФ-35В-Г to К50-35-47МКФ-25В-Г]

## К50-35-33МКФ-35В-Г
designator C?  (value not drawn)
Value: *
footprint К50-35-0511-Г_K5035-1R
footprint К50-35-0511-Г_K5035-1R1
footprint К50-35-0511-Г_Primary
pins: 1, 2

## К50-35-33МКФ-50В
designator C?  (value not drawn)
Value: *
footprint К50-35-0511_K5035-1R
footprint К50-35-0511_K5035-1R1
footprint К50-35-0511_Primary
pins: 1, 2

## К50-35-33МКФ-50В-Г
designator C?  (value not drawn)
Value: *
footprint К50-35-0511-Г_K5035-1R
footprint К50-35-0511-Г_K5035-1R1
footprint К50-35-0511-Г_Primary
pins: 1, 2

## К50-35-33МКФ-63В-0611
designator C?  (value not drawn)
Value: *
footprint К50-35-0611_K5035-1R
footprint К50-35-0611_K5035-1R1
footprint К50-35-0611_Primary
pins: 1, 2

## К50-35-33МКФ-63В-0611-Г
designator C?  (value not drawn)
Value: *
footprint К50-35-0611-Г_K5035-1R
footprint К50-35-0611-Г_K5035-1R1
footprint К50-35-0611-Г_Primary
pins: 1, 2

## К50-35-33МКФ-63В-0811
designator C?  (value not drawn)
Value: *
footprint R50-35-08XX_K5035-2R
footprint R50-35-08XX_K5035-2R1
footprint R50-35-08XX_Primary
pins: 1, 2

## К50-35-33МКФ-100В-0811
designator C?  (value not drawn)
Value: *
footprint R50-35-08XX_K5035-2R
footprint R50-35-08XX_K5035-2R1
footprint R50-35-08XX_Primary
pins: 1, 2

## К50-35-33МКФ-100В-0811-Г
designator C?  (value not drawn)
Value: *
footprint К50-35-08XX-Г_K5035-2R
footprint К50-35-08XX-Г_K5035-2R1
footprint К50-35-08XX-Г_Primary
pins: 1, 2

## К50-35-33МКФ-100В-0814
designator C?  (value not drawn)
Value: *
footprint R50-35-08XX_K5035-2R
footprint R50-35-08XX_K5035-2R1
footprint R50-35-08XX_Primary
pins: 1, 2

## К50-35-33МКФ-100В-0814-Г
designator C?  (value not drawn)
Value: *
footprint К50-35-08XX-Г_K5035-2R
footprint К50-35-08XX-Г_K5035-2R1
footprint К50-35-08XX-Г_Primary
pins: 1, 2

## К50-35-33МКФ-100В-1012
designator C?  (value not drawn)
Value: *
footprint К50-35-1020_K5035-1R
footprint К50-35-1020_K5035-1R1
footprint К50-35-1020_Primary
pins: 1, 2

## К50-35-33МКФ-100В-1012-Г
designator C?  (value not drawn)
Value: *
footprint К50-35-1020-Г_K5035-1R
footprint К50-35-1020-Г_K5035-1R1
footprint К50-35-1020-Г_Primary
pins: 1, 2

## К50-35-33МКФ-160В-1021
designator C?  (value not drawn)
Value: *
footprint К50-35-1020_K5035-1R
footprint К50-35-1020_K5035-1R1
footprint К50-35-1020_Primary
pins: 1, 2

## К50-35-33МКФ-160В-1021-Г
designator C?  (value not drawn)
Value: *
footprint К50-35-1020-Г_K5035-1R
footprint К50-35-1020-Г_K5035-1R1
footprint К50-35-1020-Г_Primary
pins: 1, 2

## К50-35-33МКФ-200В-1321
designator C?  (value not drawn)
Value: *
footprint К50-35-1320_K5035-1R
footprint К50-35-1320_K5035-1R1
footprint К50-35-1320_Primary
pins: 1, 2

## К50-35-33МКФ-200В-1321-Г
designator C?  (value not drawn)
Value: *
footprint К50-35-13XX-Г_K5035-1R
footprint К50-35-13XX-Г_K5035-1R1
footprint К50-35-13XX-Г_Primary
pins: 1, 2

## К50-35-33МКФ-250В-1321
designator C?  (value not drawn)
Value: *
footprint К50-35-1320_K5035-1R
footprint К50-35-1320_K5035-1R1
footprint К50-35-1320_Primary
pins: 1, 2

## К50-35-33МКФ-250В-1321-Г
designator C?  (value not drawn)
Value: *
footprint К50-35-13XX-Г_K5035-1R
footprint К50-35-13XX-Г_K5035-1R1
footprint К50-35-13XX-Г_Primary
pins: 1, 2

## К50-35-33МКФ-250В-1325
designator C?  (value not drawn)
Value: *
footprint К50-35-1320_K5035-1R
footprint К50-35-1320_K5035-1R1
footprint К50-35-1320_Primary
pins: 1, 2

## К50-35-33МКФ-250В-1325-Г
designator C?  (value not drawn)
Value: *
footprint К50-35-13XX-Г_K5035-1R
footprint К50-35-13XX-Г_K5035-1R1
footprint К50-35-13XX-Г_Primary
pins: 1, 2

## К50-35-33МКФ-350В-1326
designator C?  (value not drawn)
Value: *
footprint К50-35-1320_K5035-1R
footprint К50-35-1320_K5035-1R1
footprint К50-35-1320_Primary
pins: 1, 2

## К50-35-33МКФ-350В-1326-Г
designator C?  (value not drawn)
Value: *
footprint К50-35-13XX-Г_K5035-1R
footprint К50-35-13XX-Г_K5035-1R1
footprint К50-35-13XX-Г_Primary
pins: 1, 2

## К50-35-33МКФ-350В-1626
designator C?  (value not drawn)
Value: *
footprint К50-35-1625_K5035-1R
footprint К50-35-1625_K5035-1R1
footprint К50-35-1625_Primary
pins: 1, 2

## К50-35-33МКФ-350В-1626-Г
designator C?  (value not drawn)
Value: *
footprint К50-35-16XX-Г_K5035-1R
footprint К50-35-16XX-Г_K5035-1R1
footprint К50-35-16XX-Г_Primary
pins: 1, 2

## К50-35-33МКФ-400В-1625
designator C?  (value not drawn)
Value: *
footprint К50-35-1625_K5035-1R
footprint К50-35-1625_K5035-1R1
footprint К50-35-1625_Primary
pins: 1, 2

## К50-35-33МКФ-400В-1625-Г
designator C?  (value not drawn)
Value: *
footprint К50-35-16XX-Г_K5035-1R
footprint К50-35-16XX-Г_K5035-1R1
footprint К50-35-16XX-Г_Primary
pins: 1, 2

## К50-35-33МКФ-400В-1633
designator C?  (value not drawn)
Value: *
footprint К50-35-1625_K5035-1R
footprint К50-35-1625_K5035-1R1
footprint К50-35-1625_Primary
pins: 1, 2

## К50-35-33МКФ-400В-1633-Г
designator C?  (value not drawn)
Value: *
footprint К50-35-16XX-Г_K5035-1R
footprint К50-35-16XX-Г_K5035-1R1
footprint К50-35-16XX-Г_Primary
pins: 1, 2

## К50-35-33МКФ-450В-1632
designator C?  (value not drawn)
Value: *
footprint К50-35-1625_K5035-1R
footprint К50-35-1625_K5035-1R1
footprint К50-35-1625_Primary
pins: 1, 2

## К50-35-33МКФ-450В-1632-Г
designator C?  (value not drawn)
Value: *
footprint К50-35-16XX-Г_K5035-1R
footprint К50-35-16XX-Г_K5035-1R1
footprint К50-35-16XX-Г_Primary
pins: 1, 2

## К50-35-33МКФ-450В-1635
designator C?  (value not drawn)
Value: *
footprint К50-35-1625_K5035-1R
footprint К50-35-1625_K5035-1R1
footprint К50-35-1625_Primary
pins: 1, 2

## К50-35-33МКФ-450В-1635-Г
designator C?  (value not drawn)
Value: *
footprint К50-35-16XX-Г_K5035-1R
footprint К50-35-16XX-Г_K5035-1R1
footprint К50-35-16XX-Г_Primary
pins: 1, 2

## К50-35-47МКФ-6,3В
designator C?  (value not drawn)
Value: *
footprint К50-35-0511_K5035-1R
footprint К50-35-0511_K5035-1R1
footprint К50-35-0511_Primary
pins: 1, 2

## К50-35-47МКФ-6.3В-Г
designator C?  (value not drawn)
Value: *
footprint К50-35-0511-Г_K5035-1R
footprint К50-35-0511-Г_K5035-1R1
footprint К50-35-0511-Г_Primary
pins: 1, 2

## К50-35-47МКФ-10В
designator C?  (value not drawn)
Value: *
footprint К50-35-0511_K5035-1R
footprint К50-35-0511_K5035-1R1
footprint К50-35-0511_Primary
pins: 1, 2

## К50-35-47МКФ-10В-Г
designator C?  (value not drawn)
Value: *
footprint К50-35-0511-Г_K5035-1R
footprint К50-35-0511-Г_K5035-1R1
footprint К50-35-0511-Г_Primary
pins: 1, 2

## К50-35-47МКФ-16В
designator C?  (value not drawn)
Value: *
footprint К50-35-0511_K5035-1R
footprint К50-35-0511_K5035-1R1
footprint К50-35-0511_Primary
pins: 1, 2

## К50-35-47МКФ-16В-Г
designator C?  (value not drawn)
Value: *
footprint К50-35-0511-Г_K5035-1R
footprint К50-35-0511-Г_K5035-1R1
footprint К50-35-0511-Г_Primary
pins: 1, 2

## К50-35-47МКФ-25В
designator C?  (value not drawn)
Value: *
footprint К50-35-0511_K5035-1R
footprint К50-35-0511_K5035-1R1
footprint К50-35-0511_Primary
pins: 1, 2

## К50-35-47МКФ-25В-Г
designator C?  (value not drawn)
Value: *
footprint К50-35-0511-Г_K5035-1R
footprint К50-35-0511-Г_K5035-1R1
footprint К50-35-0511-Г_Primary
pins: 1, 2

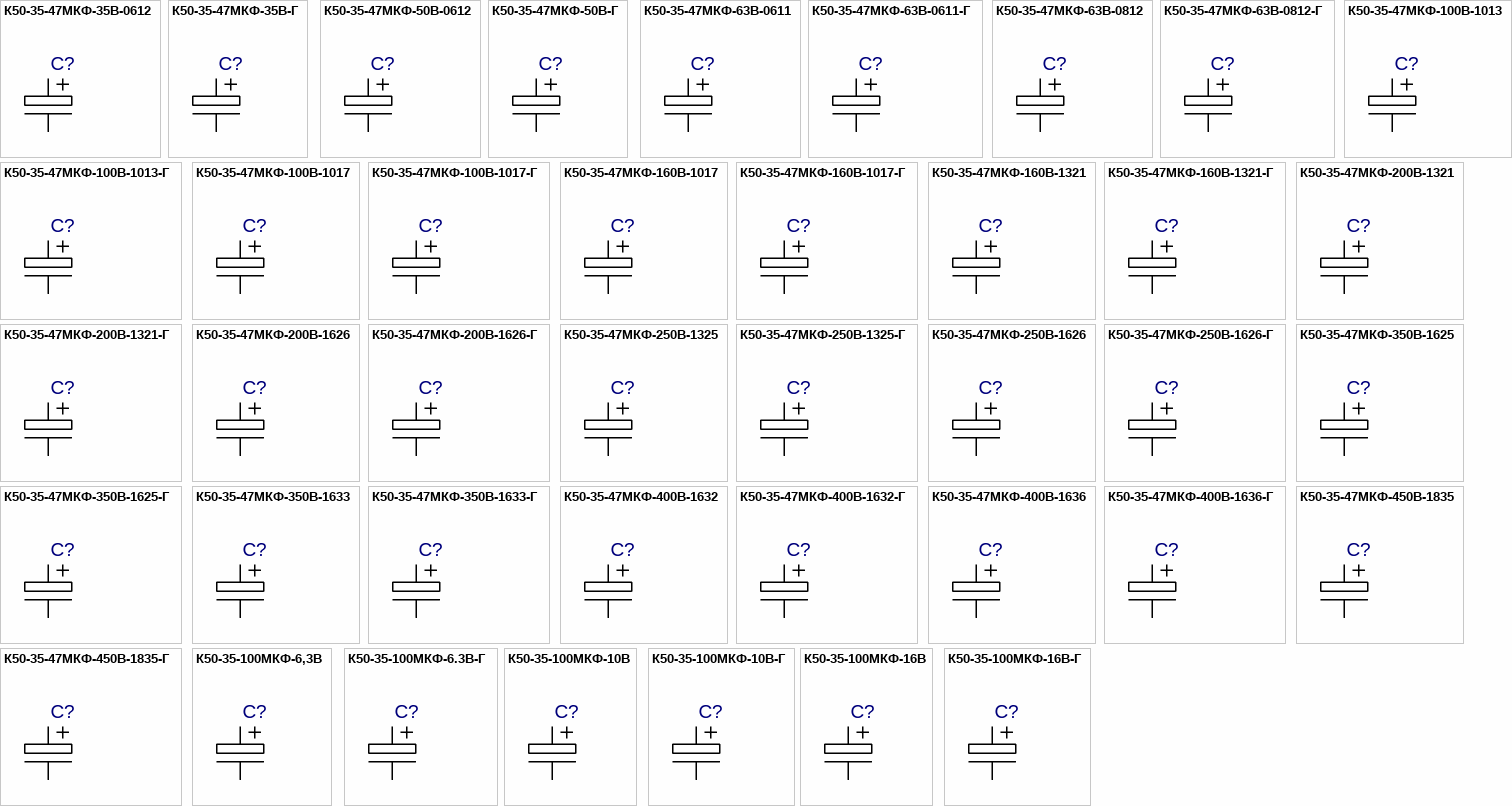
[diagram p28: symbols К50-35-47МКФ-35В-0612 to К50-35-100МКФ-16В-Г]

## К50-35-47МКФ-35В-0612
designator C?  (value not drawn)
Value: *
footprint К50-35-0611_K5035-1R
footprint К50-35-0611_K5035-1R1
footprint К50-35-0611_Primary
pins: 1, 2

## К50-35-47МКФ-35В-Г
designator C?  (value not drawn)
Value: *
footprint К50-35-0611-Г_K5035-1R
footprint К50-35-0611-Г_K5035-1R1
footprint К50-35-0611-Г_Primary
pins: 1, 2

## К50-35-47МКФ-50В-0612
designator C?  (value not drawn)
Value: *
footprint К50-35-0611_K5035-1R
footprint К50-35-0611_K5035-1R1
footprint К50-35-0611_Primary
pins: 1, 2

## К50-35-47МКФ-50В-Г
designator C?  (value not drawn)
Value: *
footprint К50-35-0611-Г_K5035-1R
footprint К50-35-0611-Г_K5035-1R1
footprint К50-35-0611-Г_Primary
pins: 1, 2

## К50-35-47МКФ-63В-0611
designator C?  (value not drawn)
Value: *
footprint К50-35-0611_K5035-1R
footprint К50-35-0611_K5035-1R1
footprint К50-35-0611_Primary
pins: 1, 2

## К50-35-47МКФ-63В-0611-Г
designator C?  (value not drawn)
Value: *
footprint К50-35-0611-Г_K5035-1R
footprint К50-35-0611-Г_K5035-1R1
footprint К50-35-0611-Г_Primary
pins: 1, 2

## К50-35-47МКФ-63В-0812
designator C?  (value not drawn)
Value: *
footprint R50-35-08XX_K5035-2R
footprint R50-35-08XX_K5035-2R1
footprint R50-35-08XX_Primary
pins: 1, 2

## К50-35-47МКФ-63В-0812-Г
designator C?  (value not drawn)
Value: *
footprint К50-35-08XX-Г_K5035-2R
footprint К50-35-08XX-Г_K5035-2R1
footprint К50-35-08XX-Г_Primary
pins: 1, 2

## К50-35-47МКФ-100В-1013
designator C?  (value not drawn)
Value: *
footprint К50-35-1020_K5035-1R
footprint К50-35-1020_K5035-1R1
footprint К50-35-1020_Primary
pins: 1, 2

## К50-35-47МКФ-100В-1013-Г
designator C?  (value not drawn)
Value: *
footprint К50-35-1020-Г_K5035-1R
footprint К50-35-1020-Г_K5035-1R1
footprint К50-35-1020-Г_Primary
pins: 1, 2

## К50-35-47МКФ-100В-1017
designator C?  (value not drawn)
Value: *
footprint К50-35-1020_K5035-1R
footprint К50-35-1020_K5035-1R1
footprint К50-35-1020_Primary
pins: 1, 2

## К50-35-47МКФ-100В-1017-Г
designator C?  (value not drawn)
Value: *
footprint К50-35-1020-Г_K5035-1R
footprint К50-35-1020-Г_K5035-1R1
footprint К50-35-1020-Г_Primary
pins: 1, 2

## К50-35-47МКФ-160В-1017
designator C?  (value not drawn)
Value: *
footprint К50-35-1020_K5035-1R
footprint К50-35-1020_K5035-1R1
footprint К50-35-1020_Primary
pins: 1, 2

## К50-35-47МКФ-160В-1017-Г
designator C?  (value not drawn)
Value: *
footprint К50-35-1020-Г_K5035-1R
footprint К50-35-1020-Г_K5035-1R1
footprint К50-35-1020-Г_Primary
pins: 1, 2

## К50-35-47МКФ-160В-1321
designator C?  (value not drawn)
Value: *
footprint К50-35-1320_K5035-1R
footprint К50-35-1320_K5035-1R1
footprint К50-35-1320_Primary
pins: 1, 2

## К50-35-47МКФ-160В-1321-Г
designator C?  (value not drawn)
Value: *
footprint К50-35-13XX-Г_K5035-1R
footprint К50-35-13XX-Г_K5035-1R1
footprint К50-35-13XX-Г_Primary
pins: 1, 2

## К50-35-47МКФ-200В-1321
designator C?  (value not drawn)
Value: *
footprint К50-35-1320_K5035-1R
footprint К50-35-1320_K5035-1R1
footprint К50-35-1320_Primary
pins: 1, 2

## К50-35-47МКФ-200В-1321-Г
designator C?  (value not drawn)
Value: *
footprint К50-35-13XX-Г_K5035-1R
footprint К50-35-13XX-Г_K5035-1R1
footprint К50-35-13XX-Г_Primary
pins: 1, 2

## К50-35-47МКФ-200В-1626
designator C?  (value not drawn)
Value: *
footprint К50-35-1625_K5035-1R
footprint К50-35-1625_K5035-1R1
footprint К50-35-1625_Primary
pins: 1, 2

## К50-35-47МКФ-200В-1626-Г
designator C?  (value not drawn)
Value: *
footprint К50-35-16XX-Г_K5035-1R
footprint К50-35-16XX-Г_K5035-1R1
footprint К50-35-16XX-Г_Primary
pins: 1, 2

## К50-35-47МКФ-250В-1325
designator C?  (value not drawn)
Value: *
footprint К50-35-1320_K5035-1R
footprint К50-35-1320_K5035-1R1
footprint К50-35-1320_Primary
pins: 1, 2

## К50-35-47МКФ-250В-1325-Г
designator C?  (value not drawn)
Value: *
footprint К50-35-13XX-Г_K5035-1R
footprint К50-35-13XX-Г_K5035-1R1
footprint К50-35-13XX-Г_Primary
pins: 1, 2

## К50-35-47МКФ-250В-1626
designator C?  (value not drawn)
Value: *
footprint К50-35-1625_K5035-1R
footprint К50-35-1625_K5035-1R1
footprint К50-35-1625_Primary
pins: 1, 2

## К50-35-47МКФ-250В-1626-Г
designator C?  (value not drawn)
Value: *
footprint К50-35-16XX-Г_K5035-1R
footprint К50-35-16XX-Г_K5035-1R1
footprint К50-35-16XX-Г_Primary
pins: 1, 2

## К50-35-47МКФ-350В-1625
designator C?  (value not drawn)
Value: *
footprint К50-35-1625_K5035-1R
footprint К50-35-1625_K5035-1R1
footprint К50-35-1625_Primary
pins: 1, 2

## К50-35-47МКФ-350В-1625-Г
designator C?  (value not drawn)
Value: *
footprint К50-35-16XX-Г_K5035-1R
footprint К50-35-16XX-Г_K5035-1R1
footprint К50-35-16XX-Г_Primary
pins: 1, 2

## К50-35-47МКФ-350В-1633
designator C?  (value not drawn)
Value: *
footprint К50-35-1625_K5035-1R
footprint К50-35-1625_K5035-1R1
footprint К50-35-1625_Primary
pins: 1, 2

## К50-35-47МКФ-350В-1633-Г
designator C?  (value not drawn)
Value: *
footprint К50-35-16XX-Г_K5035-1R
footprint К50-35-16XX-Г_K5035-1R1
footprint К50-35-16XX-Г_Primary
pins: 1, 2

## К50-35-47МКФ-400В-1632
designator C?  (value not drawn)
Value: *
footprint К50-35-1625_K5035-1R
footprint К50-35-1625_K5035-1R1
footprint К50-35-1625_Primary
pins: 1, 2

## К50-35-47МКФ-400В-1632-Г
designator C?  (value not drawn)
Value: *
footprint К50-35-16XX-Г_K5035-1R
footprint К50-35-16XX-Г_K5035-1R1
footprint К50-35-16XX-Г_Primary
pins: 1, 2

## К50-35-47МКФ-400В-1636
designator C?  (value not drawn)
Value: *
footprint К50-35-1625_K5035-1R
footprint К50-35-1625_K5035-1R1
footprint К50-35-1625_Primary
pins: 1, 2

## К50-35-47МКФ-400В-1636-Г
designator C?  (value not drawn)
Value: *
footprint К50-35-16XX-Г_K5035-1R
footprint К50-35-16XX-Г_K5035-1R1
footprint К50-35-16XX-Г_Primary
pins: 1, 2

## К50-35-47МКФ-450В-1835
designator C?  (value not drawn)
Value: *
footprint К50-35-1835_K5035-1R
footprint К50-35-1835_K5035-1R1
footprint К50-35-1835_Primary
pins: 1, 2

## К50-35-47МКФ-450В-1835-Г
designator C?  (value not drawn)
Value: *
footprint К50-35-18XX-Г_K5035-1R
footprint К50-35-18XX-Г_K5035-1R1
footprint К50-35-18XX-Г_Primary
pins: 1, 2

## К50-35-100МКФ-6,3В
designator C?  (value not drawn)
Value: *
footprint К50-35-0511_K5035-1R
footprint К50-35-0511_K5035-1R1
footprint К50-35-0511_Primary
pins: 1, 2

## К50-35-100МКФ-6.3В-Г
designator C?  (value not drawn)
Value: *
footprint К50-35-0511-Г_K5035-1R
footprint К50-35-0511-Г_K5035-1R1
footprint К50-35-0511-Г_Primary
pins: 1, 2

## К50-35-100МКФ-10В
designator C?  (value not drawn)
Value: *
footprint К50-35-0511_K5035-1R
footprint К50-35-0511_K5035-1R1
footprint К50-35-0511_Primary
pins: 1, 2

## К50-35-100МКФ-10В-Г
designator C?  (value not drawn)
Value: *
footprint К50-35-0511-Г_K5035-1R
footprint К50-35-0511-Г_K5035-1R1
footprint К50-35-0511-Г_Primary
pins: 1, 2

## К50-35-100МКФ-16В
designator C?  (value not drawn)
Value: *
footprint К50-35-0511_K5035-1R
footprint К50-35-0511_K5035-1R1
footprint К50-35-0511_Primary
pins: 1, 2

## К50-35-100МКФ-16В-Г
designator C?  (value not drawn)
Value: *
footprint К50-35-0511-Г_K5035-1R
footprint К50-35-0511-Г_K5035-1R1
footprint К50-35-0511-Г_Primary
pins: 1, 2

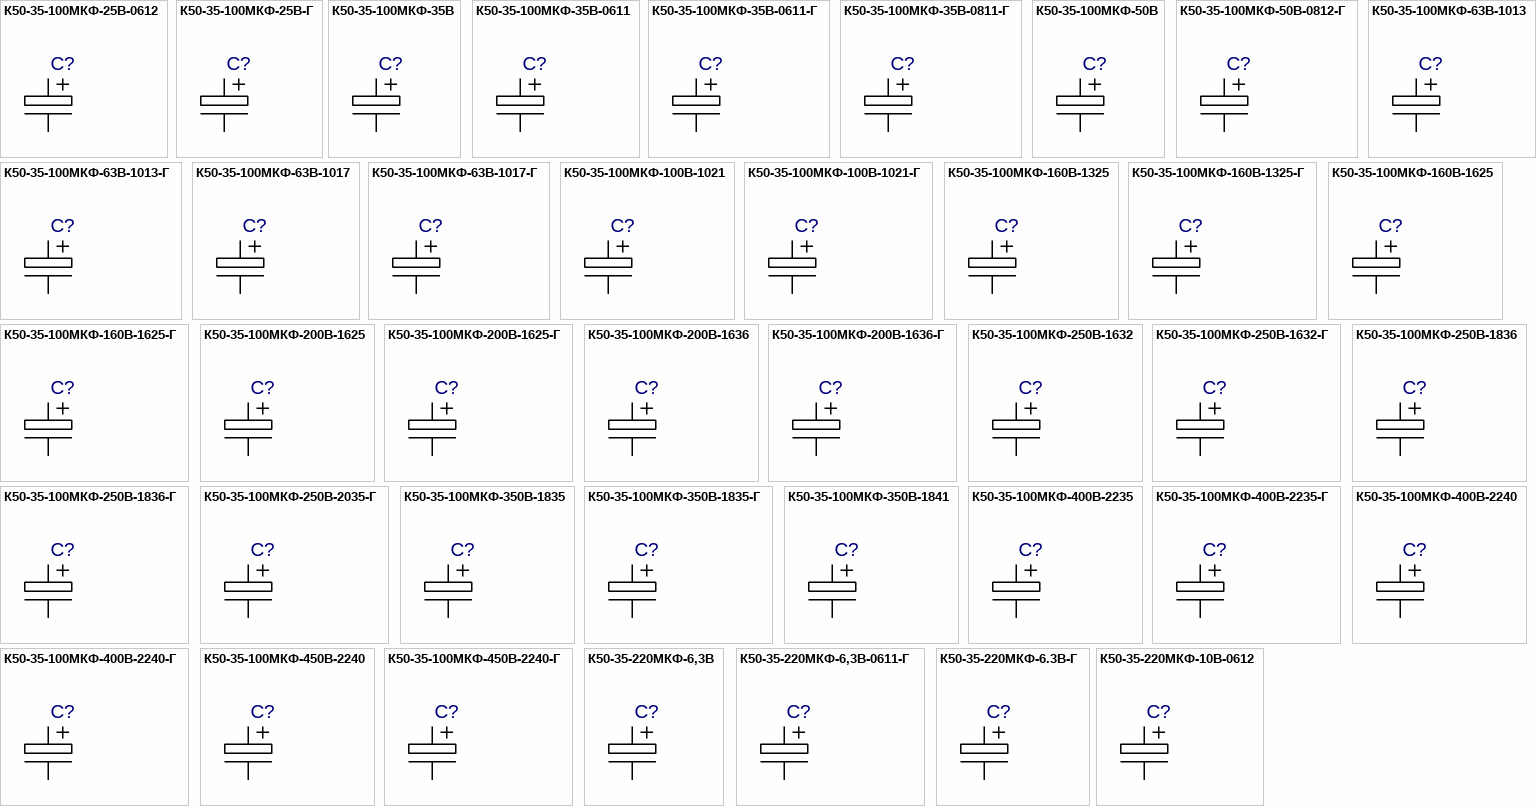
[diagram p29: symbols К50-35-100МКФ-25В-0612 to К50-35-220МКФ-10В-0612]

## К50-35-100МКФ-25В-0612
designator C?  (value not drawn)
Value: *
footprint К50-35-0611_K5035-1R
footprint К50-35-0611_K5035-1R1
footprint К50-35-0611_Primary
pins: 1, 2

## К50-35-100МКФ-25В-Г
designator C?  (value not drawn)
Value: *
footprint К50-35-0611-Г_K5035-1R
footprint К50-35-0611-Г_K5035-1R1
footprint К50-35-0611-Г_Primary
pins: 1, 2

## К50-35-100МКФ-35В
designator C?  (value not drawn)
Value: *
footprint R50-35-08XX_K5035-2R
footprint R50-35-08XX_K5035-2R1
footprint R50-35-08XX_Primary
pins: 1, 2

## К50-35-100МКФ-35В-0611
designator C?  (value not drawn)
Value: *
footprint К50-35-0611_K5035-1R
footprint К50-35-0611_K5035-1R1
footprint К50-35-0611_Primary
pins: 1, 2

## К50-35-100МКФ-35В-0611-Г
designator C?  (value not drawn)
Value: *
footprint К50-35-0611-Г_K5035-1R
footprint К50-35-0611-Г_K5035-1R1
footprint К50-35-0611-Г_Primary
pins: 1, 2

## К50-35-100МКФ-35В-0811-Г
designator C?  (value not drawn)
Value: *
footprint К50-35-08XX-Г_K5035-2R
footprint К50-35-08XX-Г_K5035-2R1
footprint К50-35-08XX-Г_Primary
pins: 1, 2

## К50-35-100МКФ-50В
designator C?  (value not drawn)
Value: *
footprint R50-35-08XX_K5035-2R
footprint R50-35-08XX_K5035-2R1
footprint R50-35-08XX_Primary
pins: 1, 2

## К50-35-100МКФ-50В-0812-Г
designator C?  (value not drawn)
Value: *
footprint К50-35-08XX-Г_K5035-2R
footprint К50-35-08XX-Г_K5035-2R1
footprint К50-35-08XX-Г_Primary
pins: 1, 2

## К50-35-100МКФ-63В-1013
designator C?  (value not drawn)
Value: *
footprint К50-35-1020_K5035-1R
footprint К50-35-1020_K5035-1R1
footprint К50-35-1020_Primary
pins: 1, 2

## К50-35-100МКФ-63В-1013-Г
designator C?  (value not drawn)
Value: *
footprint К50-35-1020-Г_K5035-1R
footprint К50-35-1020-Г_K5035-1R1
footprint К50-35-1020-Г_Primary
pins: 1, 2

## К50-35-100МКФ-63В-1017
designator C?  (value not drawn)
Value: *
footprint К50-35-1020_K5035-1R
footprint К50-35-1020_K5035-1R1
footprint К50-35-1020_Primary
pins: 1, 2

## К50-35-100МКФ-63В-1017-Г
designator C?  (value not drawn)
Value: *
footprint К50-35-1020-Г_K5035-1R
footprint К50-35-1020-Г_K5035-1R1
footprint К50-35-1020-Г_Primary
pins: 1, 2

## К50-35-100МКФ-100В-1021
designator C?  (value not drawn)
Value: *
footprint К50-35-1020_K5035-1R
footprint К50-35-1020_K5035-1R1
footprint К50-35-1020_Primary
pins: 1, 2

## К50-35-100МКФ-100В-1021-Г
designator C?  (value not drawn)
Value: *
footprint К50-35-1020-Г_K5035-1R
footprint К50-35-1020-Г_K5035-1R1
footprint К50-35-1020-Г_Primary
pins: 1, 2

## К50-35-100МКФ-160В-1325
designator C?  (value not drawn)
Value: *
footprint К50-35-1320_K5035-1R
footprint К50-35-1320_K5035-1R1
footprint К50-35-1320_Primary
pins: 1, 2

## К50-35-100МКФ-160В-1325-Г
designator C?  (value not drawn)
Value: *
footprint К50-35-13XX-Г_K5035-1R
footprint К50-35-13XX-Г_K5035-1R1
footprint К50-35-13XX-Г_Primary
pins: 1, 2

## К50-35-100МКФ-160В-1625
designator C?  (value not drawn)
Value: *
footprint К50-35-1625_K5035-1R
footprint К50-35-1625_K5035-1R1
footprint К50-35-1625_Primary
pins: 1, 2

## К50-35-100МКФ-160В-1625-Г
designator C?  (value not drawn)
Value: *
footprint К50-35-16XX-Г_K5035-1R
footprint К50-35-16XX-Г_K5035-1R1
footprint К50-35-16XX-Г_Primary
pins: 1, 2

## К50-35-100МКФ-200В-1625
designator C?  (value not drawn)
Value: *
footprint К50-35-1625_K5035-1R
footprint К50-35-1625_K5035-1R1
footprint К50-35-1625_Primary
pins: 1, 2